# EAGLE library part FIFO_AL422B (library Chao)
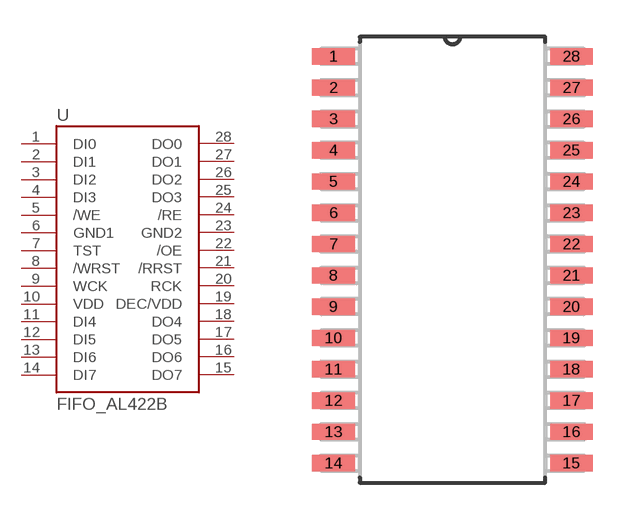
[diagram p11: symbol with the pads of SOP-28; footprint SOP-28]

Designator prefix -

## FIFO_AL422B  [SOP-28]
1  DI0  in
2  DI1  in
3  DI2  in
4  DI3  in
5  /WE  in
6  GND1  pwr
7  TST  in
8  /WRST  in
9  WCK  in
10  VDD  pwr
11  DI4  in
12  DI5  in
13  DI6  in
14  DI7  in
15  DO7  out
16  DO6  out
17  DO5  out
18  DO4  out
19  DEC/VDD  pwr
20  RCK  in
21  /RRST  in
22  /OE  in
23  GND2  pwr
24  /RE  in
25  DO3  out
26  DO2  out
27  DO1  out
28  DO0  out

## Footprint SOP-28 (pad centres in mm)
smd 1.727 x 0.66: 1 -4.826,8.255; 2 -4.826,6.985; 3 -4.826,5.715; 4 -4.826,4.445; 5 -4.826,3.175; 6 -4.826,1.905; 7 -4.826,0.635; 8 -4.826,-0.635; 9 -4.826,-1.905; 10 -4.826,-3.175; 11 -4.826,-4.445; 12 -4.826,-5.715; 13 -4.826,-6.985; 14 -4.826,-8.255; 15 4.826,-8.255; 16 4.826,-6.985; 17 4.826,-5.715; 18 4.826,-4.445; 19 4.826,-3.175; 20 4.826,-1.905; 21 4.826,-0.635; 22 4.826,0.635; 23 4.826,1.905; 24 4.826,3.175; 25 4.826,4.445; 26 4.826,5.715; 27 4.826,6.985; 28 4.826,8.255